# Altium schematic symbol library 1500uF_100V.SchLib: 1 symbol
Pins are listed as number, name and electrical type; pins without a type are passive.

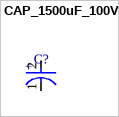
[diagram p0: symbol CAP_1500uF_100V]

## CAP_1500uF_100V
designator C?, comment 1500uF_100V  (value not drawn)
footprint 1500uF_100V
pins: 1 C, 2 A
text: +